# Altium schematic symbol library 运算放大器.SchLib: 2 symbols
Pins are listed as number, name and electrical type; pins without a type are passive.

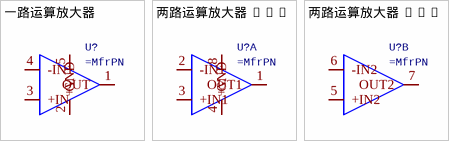
[diagram p0: symbols 一路运算放大器 to 两路运算放大器]

## 一路运算放大器
designator U?
pins: 1 OUT, 2 GND, 3 +IN, 4 -IN1, 5 +V

## 两路运算放大器
designator U?
part A pins: 1 OUT1, 2 -IN1, 3 +IN1, 4 GND, 8 +V
part B pins: 5 +IN2, 6 -IN2, 7 OUT2